# Altium schematic symbol library NYS215.SchLib: 1 symbol
Pins are listed as number, name and electrical type; pins without a type are passive.

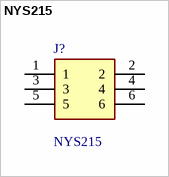
[diagram p0: symbol NYS215]

## NYS215
designator J?
Phone Connectors 1/4" STEREO SWITCHED REAN; Manufacturer_Name: Neutrik; Geometry.Height: 15.85mm; Mouser Part Number: 568-NYS215; Mouser Price/Stock: https://www.mouser.co.uk/ProductDetail/REAN/NYS215?qs=JfNPhaIww3IP3mAnpHYtWw%3D%3D; Manufacturer_Part_Number: NYS215; Datasheet Link: *
footprint NYS215
pins: 1, 2, 3, 4, 5, 6